# Altium footprint library USB_4port_Vertical_Stack.PcbLib: 1 footprints
Each footprint in its own frame and in the unit in brackets; x right, y up, seen from the top. Pads: shape width x height; smd on the part's side, far side on the other; paste and mask are expansions set on the pad; w line width, h text height; cw(c..) or ccw(c..) is an arc to the next point about the centre after c.
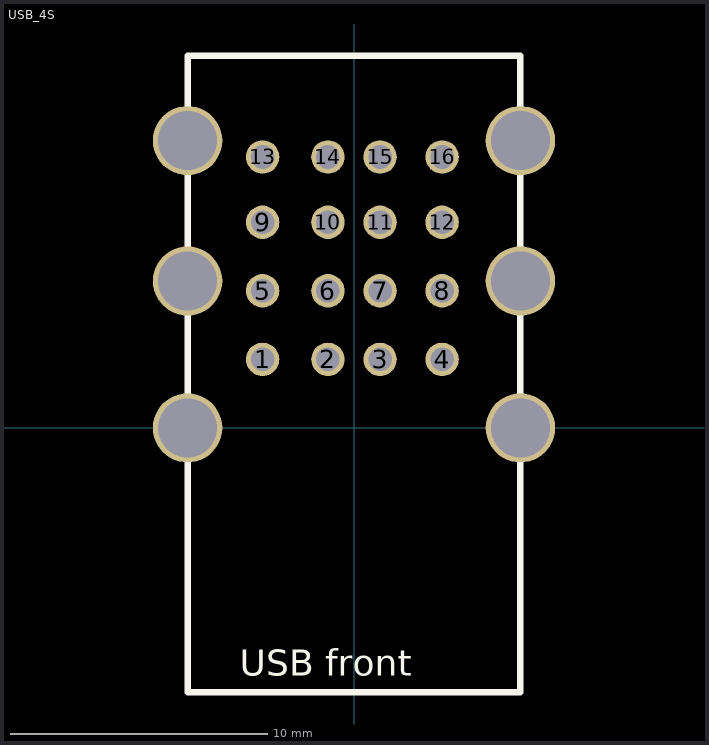
[diagram p0: the footprint, top view; thin cyan lines are the x and y axes]

## USB_4S [mm] "USB Vertical 4 Stack"
pads (22):
  round 1.3 hole 0.92: 1(-3.556,2.667) 2(-1.016,2.667) 3(1.016,2.667) 4(3.429,2.667) 5(-3.556,5.334) 6(-1.016,5.334) 7(1.016,5.334) 8(3.429,5.334) 9(-3.556,8.001) 10(-1.016,8.001) 11(1.016,8.001) 12(3.429,8.001) 13(-3.556,10.541) 14(-1.016,10.541) 15(1.016,10.541) 16(3.429,10.541)
  round 2.7 hole 2.3: ""(-6.477,0) ""(-6.477,5.715) ""(-6.477,11.176) ""(6.477,0) ""(6.477,5.715) ""(6.477,11.176)
Top Overlay:
  lines w0.254: -6.477,-10.287 6.477,-10.287 6.477,14.478 -6.477,14.478 -6.477,-10.287
  text "USB front" at -4.445,-9.652 h1.02
3D body: height 32.99, standoff -4.82, extent -8.001,-10.479 7.773,15.305